# EAGLE library part IREG_MCP1643 (library PiB_ic_power)
LED Constant Current Source Contains a constant current LED driver. This is actually a relatively low power device since it relies on a switching technology, but the thermal pad should probably be grounded so that heat dissipation doesn't eventually become an issue in prolonged LED usage tasks.
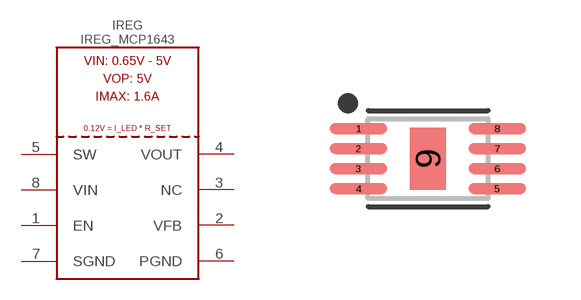
[diagram p5: symbol with the pads of SON50P300X200X100-9T90X155M; footprint SON50P300X200X100-9T90X155M]

Designator prefix IREG

## IREG_MCP1643-I/MC (DATASHEET: http://ww1.microchip.com/downloads/en/DeviceDoc/20005208A.pdf; DIST: Digikey; DISTLINK: https://www.digikey.com/product-detail/en/microchip-technology/MCP1643-I-MC/MCP1643-I-MC-ND/4079916; DISTPN: MCP1643-I/MC-ND; MFR: Microchip Technology; MPN: MCP1643-I/MC; VALUE: MCP1643/1.6A)  [SON50P300X200X100-9T90X155M]
1  EN
2  VFB
3  NC  nc
4  VOUT
5  SW
6  PGND
7  SGND
8  VIN

## Footprint SON50P300X200X100-9T90X155M (pad centres in mm)
8-SON (DFN), 0.50 mm pitch, 2.00 X 3.00 X 1.00 mm body, 1.55 X 0.90 mm thermal pad 8-pin SON (DFN) package with 0.50 mm pitch with body size 2.00 X 3.00 X 1.00 mm and thermal pad size 1.55 X 0.90 mm
smd 1.437 x 0.27: 1 -1.737,0.75; 2 -1.737,0.25; 3 -1.737,-0.25; 4 -1.737,-0.75; 5 1.737,-0.75; 6 1.737,-0.25; 7 1.737,0.25; 8 1.737,0.75
smd 0.9 x 1.55: 9 0,0